# EAGLE library part SN75176 (library mylib)
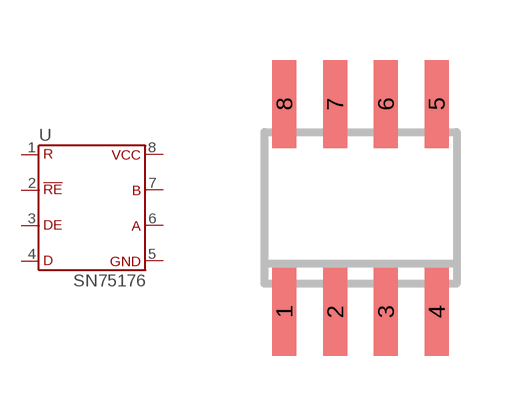
[diagram p17: symbol with the pads of SO8; footprint SO8]

Designator prefix -

## SN75176  [SO8]
1  R
2  RE
3  DE
4  D
5  GND
6  A
7  B
8  VCC

## Footprint SO8 (pad centres in mm)
smd 0.6 x 2.2: 1 -1.905,-2.6; 2 -0.635,-2.6; 3 0.635,-2.6; 4 1.905,-2.6; 5 1.905,2.6; 6 0.635,2.6; 7 -0.635,2.6; 8 -1.905,2.6